# Altium schematic symbol library LedVerde.SchLib: 1 symbol
Pins are listed as number, name and electrical type; pins without a type are passive.

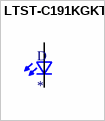
[diagram p0: symbol LTST-C191KGKT]

## LTST-C191KGKT
designator D
Green 571nm LED Indication - Discrete 2V 0603 _1608 Metric_; MF: Lite-On Inc.; MP: LTST-C191KGKT; Package: 0603 Lite-On; Price: None; Availability: Unavailable; SnapEDA_Link: https://www.snapeda.com/parts/LTST-C191KGKT/Lite-On%20Inc./view-part/48565/?ref=snap; Value: *
footprint 0603gree
pins: 1 K2, 2 A2